# Altium footprint library VESC6_3.PcbLib: 18 footprints (part 1 of 2)
Each footprint in its own frame and in the unit in brackets; x right, y up, seen from the top. Pads: shape width x height; smd on the part's side, far side on the other; paste and mask are expansions set on the pad; w line width, h text height; cw(c..) or ccw(c..) is an arc to the next point about the centre after c.
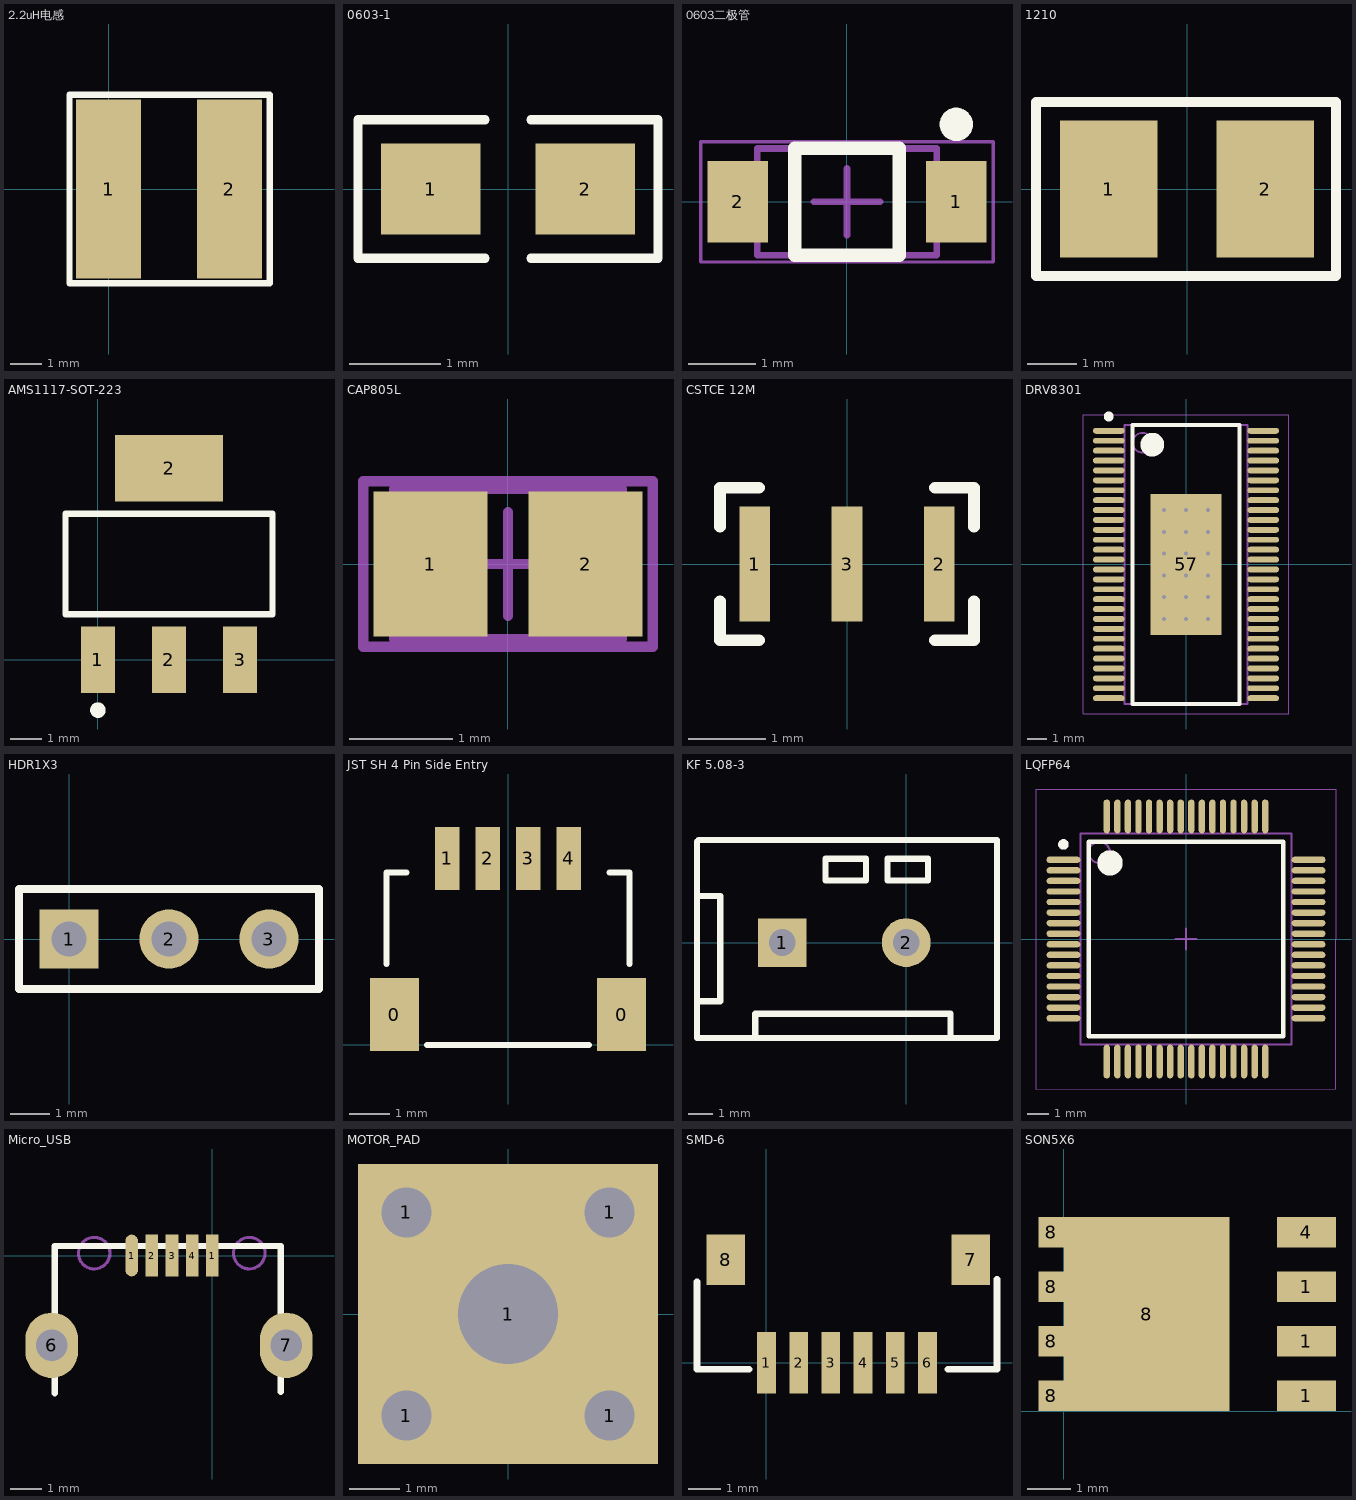
[diagram p0: the footprints below, top view; thin cyan lines are the x and y axes]

## 2.2uH电感 [mm]
pads (2):
  rect 2.1x5.8 smd: 1(0,0) 2(3.9,0)
Top Overlay:
  lines w0.2: -1.27,-3.048 -1.27,-0.27 -1.27,3.048 5.207,3.048 5.207,-3.048 -1.27,-3.048

## 0603-1 [mm] "贴片带丝印"
height 0.6
pads (2):
  rect 1.1x1 smd: 1(-0.85,0) 2(0.85,0)
Top Overlay:
  lines w0.1: -0.254,-0.762 -1.651,-0.762 -1.651,0.762 -0.254,0.762 ; 0.254,-0.762 1.651,-0.762 1.651,0.762 0.254,0.762
3D body: height 1, standoff 0, extent -1.143,-0.381 1.143,0.381

## 0603二极管 [mm]
pads (2):
  rect 0.91x1.22 smd: 1(1.635,0) 2(-1.635,0)
Top Overlay:
  circle w0.25: c1.635,1.16 r0.125
  lines w0.2: -0.78,-0.8 0.78,-0.8 0.78,0.8 -0.78,0.8 -0.78,-0.8
Mechanical 14:
  lines w0.1: -1.345,-0.8 -1.345,0.8 1.345,0.8 1.345,-0.8 -1.345,-0.8
Mechanical 16:
  lines w0.05: -2.19,-0.9 -2.19,0.9 2.19,0.9 2.19,-0.9 -2.19,-0.9
  lines w0.1: -0.5,0 0.5,0 ; 0,-0.5 0,0.5

## 1210 [mm]
pads (2):
  rect 2x2.8 smd: 1(-1.6,0) 2(1.6,0)
Top Overlay:
  lines w0.2: -3.089,-1.778 -3.089,0 -3.089,1.778 -2.2,1.778 3.048,1.778 3.048,-1.778 -2.2,-1.778 -3.089,-1.778

## AMS1117-SOT-223 [mm]
pads (4):
  rect 1.1x2.15 smd: 1(0,0) 2(2.3,0) 3(4.6,0)
  rect 3.5x2.15 smd: 2(2.3,6.2)
Top Overlay:
  circle w0.25: c0,-1.625 r0.125
  lines w0.2: -1.05,1.475 -1.05,4.725 5.65,4.725 5.65,1.475 -1.05,1.475

## CAP805L [mm] "Chip Capacitor, Body 2.0x1.3mm, IPC High Density"
height 1.1
pads (2):
  rect 1.1x1.4 smd: 1(-0.75,0) 2(0.75,0)
Mechanical 13:
  lines w0.1: -1.1,-0.725 -1.1,0.725 1.1,0.725 1.1,-0.725 -1.1,-0.725
Mechanical 15:
  lines w0.1: -0.5,0 0.5,0 ; 0,-0.5 0,0.5 ; -1.4,-0.8 -1.4,0.8 1.4,0.8 1.4,-0.8 -1.4,-0.8
3D body "0805 SMD Capacitor.step": height 0.78, standoff 0, extent -1,-0.625 1,0.625

## CSTCE 12M [mm] "晶振 3.2*1.3"
pads (3):
  rect 0.4x1.5 smd: 1(-1.2,0) 2(1.2,0) 3(0,0)
Top Overlay:
  lines w0.152: -1.651,-0.483 -1.651,-0.991 -1.143,-0.991 ; -1.651,0.483 -1.651,0.991 -1.143,0.991 ; 1.143,-0.991 1.651,-0.991 1.651,-0.483 ; 1.143,0.991 1.651,0.991 1.651,0.483
3D body: height 0.5, standoff 0.29, extent -1.524,-0.889 1.524,0.889
3D body: height 0.3, standoff 0, extent -1.549,-0.889 1.55,0.881

## DRV8301 [mm] "TSSOP, 56-Leads, Body 14.00x6.10mm, Pitch 0.50mm, Thermal Pad 7.11x3.61mm, IPC Low Density"
height 1.2
pads (57):
  oval 1.6x0.3 smd: 1(-3.9,6.75) 2(-3.9,6.25) 3(-3.9,5.75) 4(-3.9,5.25) 5(-3.9,4.75) 6(-3.9,4.25) 7(-3.9,3.75) 8(-3.9,3.25) 9(-3.9,2.75) 10(-3.9,2.25) 11(-3.9,1.75) 12(-3.9,1.25) 13(-3.9,0.75) 14(-3.9,0.25) 15(-3.9,-0.25) 16(-3.9,-0.75) 17(-3.9,-1.25) 18(-3.9,-1.75) 19(-3.9,-2.25) 20(-3.9,-2.75) 21(-3.9,-3.25) 22(-3.9,-3.75) 23(-3.9,-4.25) 24(-3.9,-4.75) 25(-3.9,-5.25) 26(-3.9,-5.75) 27(-3.9,-6.25) 28(-3.9,-6.75) 29(3.9,-6.75) 30(3.9,-6.25) 31(3.9,-5.75) 32(3.9,-5.25) 33(3.9,-4.75) 34(3.9,-4.25) 35(3.9,-3.75) 36(3.9,-3.25) 37(3.9,-2.75) 38(3.9,-2.25) 39(3.9,-1.75) 40(3.9,-1.25) 41(3.9,-0.75) 42(3.9,-0.25) 43(3.9,0.25) 44(3.9,0.75) 45(3.9,1.25) 46(3.9,1.75) 47(3.9,2.25) 48(3.9,2.75) 49(3.9,3.25) 50(3.9,3.75) 51(3.9,4.25) 52(3.9,4.75) 53(3.9,5.25) 54(3.9,5.75) 55(3.9,6.25) 56(3.9,6.75)
  rect 3.61x7.11 smd: 57(0,0)
via -1.1,2.75 diameter 0.5 hole 0.2
via 0,2.75 diameter 0.5 hole 0.2
via 1.1,2.75 diameter 0.5 hole 0.2
via -1.1,1.65 diameter 0.5 hole 0.2
via 0,1.65 diameter 0.5 hole 0.2
via 1.1,1.65 diameter 0.5 hole 0.2
via -1.1,0.55 diameter 0.5 hole 0.2
via 0,0.55 diameter 0.5 hole 0.2
via 1.1,0.55 diameter 0.5 hole 0.2
via -1.1,-0.55 diameter 0.5 hole 0.2
via 0,-0.55 diameter 0.5 hole 0.2
via 1.1,-0.55 diameter 0.5 hole 0.2
via -1.1,-1.65 diameter 0.5 hole 0.2
via 0,-1.65 diameter 0.5 hole 0.2
via 1.1,-1.65 diameter 0.5 hole 0.2
via -1.1,-2.75 diameter 0.5 hole 0.2
via 0,-2.75 diameter 0.5 hole 0.2
via 1.1,-2.75 diameter 0.5 hole 0.2
Top Overlay:
  circle w0.25: c-3.9,7.475 r0.125
  circle w0.6: c-1.7,6.05 r0.3
  lines w0.2: -2.7,-7.05 -2.7,7.05 2.7,7.05 2.7,-7.05 -2.7,-7.05
Mechanical 13:
  circle w0.1: c-2.2,6.15 r0.5
  lines w0.1: -3.1,-7.05 -3.1,7.05 3.1,7.05 3.1,-7.05 -3.1,-7.05
Mechanical 15:
  lines w0.05: -5.2,-7.55 -5.2,7.55 5.2,7.55 5.2,-7.55 -5.2,-7.55
  lines w0.1: -0.5,0 0.5,0 ; 0,-0.5 0,0.5
3D body "DRV8301.step": height 1.2, standoff 0, extent -4.05,-7.05 4.05,7.05

## HDR1X3 [mm] "Connector; Header; 3 Position"
pads (3):
  rect 1.5x1.5 hole 0.9: 1(0,0)
  round 1.5 hole 0.9: 2(2.54,0) 3(5.08,0)
Top Overlay:
  lines w0.2: -1.27,-1.27 -1.27,1.27 6.35,1.27 6.35,-1.27 -1.27,-1.27

## JST SH 4 Pin Side Entry [mm] "SM04B-SRSS-TB"
height 2.9
pads (6):
  rect 1.2x1.8 smd: 0(-2.8,0.75) 0(2.8,0.75)
  rect 0.6x1.55 smd: 1(-1.5,4.6) 2(-0.5,4.6) 3(0.5,4.6) 4(1.5,4.6)
Top Overlay:
  lines w0.15: -3,2 -3,4.25 -2.5,4.25 ; -2,0 2,0 ; 2.5,4.25 3,4.25 3,2
3D body "SM04B-SRSS-TB.STEP": height 2.92, standoff -0.04, extent -3,0 3,4.95

## KF 5.08-3 [mm]
pads (2):
  rect 2x2 hole 1.1: 1(-5.08,0)
  round 2 hole 1.1: 2(0,0)
Top Overlay:
  lines w0.254: -8.57,-2.404 -7.62,-2.404 -7.62,1.914 -8.57,1.914 ; -6.186,-3.839 -6.186,-2.912 1.815,-2.912 1.815,-3.839 ; 3.72,1.914 3.72,4.2 -8.5,4.2 -8.57,4.13 -8.57,4.002 -8.57,-3.9 3.72,-3.9 3.72,2.54 ; -3.302,2.549 -1.651,2.549 -1.651,3.438 -3.302,3.438 -3.302,2.549 ; -0.762,2.549 0.889,2.549 0.889,3.438 -0.762,3.438 -0.762,2.549
Mechanical 15:
  circle w0.05: c0,0 r0.35
  lines w0.05: -0.5,0 0.5,0 ; 0,-0.5 0,0.5
3D body "KF2EDGK-2.54-LI-3P.STEP": height 10.15, standoff -3.15, extent -7.451,-4 2.069,4.1

## LQFP64 [mm] "TSQFP, 64-Leads, Body 10.00x10.00mm, Pitch 0.50mm, IPC Low Density"
height 1.6
pads (64):
  oval 1.6x0.3 smd: 1(-5.8,3.75) 2(-5.8,3.25) 3(-5.8,2.75) 4(-5.8,2.25) 5(-5.8,1.75) 6(-5.8,1.25) 7(-5.8,0.75) 8(-5.8,0.25) 9(-5.8,-0.25) 10(-5.8,-0.75) 11(-5.8,-1.25) 12(-5.8,-1.75) 13(-5.8,-2.25) 14(-5.8,-2.75) 15(-5.8,-3.25) 16(-5.8,-3.75) 33(5.8,-3.75) 34(5.8,-3.25) 35(5.8,-2.75) 36(5.8,-2.25) 37(5.8,-1.75) 38(5.8,-1.25) 39(5.8,-0.75) 40(5.8,-0.25) 41(5.8,0.25) 42(5.8,0.75) 43(5.8,1.25) 44(5.8,1.75) 45(5.8,2.25) 46(5.8,2.75) 47(5.8,3.25) 48(5.8,3.75)
  oval 0.3x1.6 smd: 17(-3.75,-5.8) 18(-3.25,-5.8) 19(-2.75,-5.8) 20(-2.25,-5.8) 21(-1.75,-5.8) 22(-1.25,-5.8) 23(-0.75,-5.8) 24(-0.25,-5.8) 25(0.25,-5.8) 26(0.75,-5.8) 27(1.25,-5.8) 28(1.75,-5.8) 29(2.25,-5.8) 30(2.75,-5.8) 31(3.25,-5.8) 32(3.75,-5.8) 49(3.75,5.8) 50(3.25,5.8) 51(2.75,5.8) 52(2.25,5.8) 53(1.75,5.8) 54(1.25,5.8) 55(0.75,5.8) 56(0.25,5.8) 57(-0.25,5.8) 58(-0.75,5.8) 59(-1.25,5.8) 60(-1.75,5.8) 61(-2.25,5.8) 62(-2.75,5.8) 63(-3.25,5.8) 64(-3.75,5.8)
Top Overlay:
  circle w0.25: c-5.8,4.475 r0.125
  circle w0.6: c-3.6,3.6 r0.3
  lines w0.2: -4.6,-4.6 -4.6,4.6 4.6,4.6 4.6,-4.6 -4.6,-4.6
Mechanical 13:
  circle w0.1: c-4.1,4.1 r0.5
  lines w0.1: -5,-5 -5,5 5,5 5,-5 -5,-5
Mechanical 15:
  lines w0.05: -7.1,-7.1 -7.1,7.1 7.1,7.1 7.1,-7.1 -7.1,-7.1
  lines w0.1: -0.5,0 0.5,0 ; 0,-0.5 0,0.5
3D body "LQFP64.step": height 1.6, standoff 0, extent -6,-6 6,6

## Micro_USB [mil]
pads (7):
  oval 16x53 smd mask+1: 1(-102.36,0)
  rect 16x53 smd mask+1: 1(0,0) 2(-76.77,0) 3(-51.18,0) 4(-25.59,0)
  oval 67x83 hole 40 mask+1: 6(-204,-114) 7(94,-114)
Top Overlay:
  lines w8: -200,-175 -200,12 87,12 87,-173
Mechanical 1:
  circle w4: c46.98,3 r20.02
  circle w4: c-150.03,3 r20.02

## MOTOR_PAD [mil]
pads (5):
  round 60 hole 39.37: 1(-80,-80) 1(-80,80) 1(80,-80) 1(80,80)
  rect 236.22x236.22 hole 78.74: 1(0,0)

## SMD-6 [mil]
pads (8):
  rect 23x75 smd mask+1: 1(0,0) 2(39.37,0) 3(78.74,0) 4(118.11,0) 5(157.48,0) 6(196.85,0)
  rect 47x62 smd mask+1: 7(250,126) 8(-50,126)
Top Overlay:
  lines w8: -85,99 -85,-8 -21,-8 ; 222,-8 282,-8 282,102

## SON5X6 [mm]
pads (9):
  rect 1.372x0.71 smd: 1(5.636,0.355) 1(5.636,1.625) 1(5.636,2.895) 4(5.636,4.165)
  rect 0.59x0.71 smd: 8(-0.295,0.355) 8(-0.295,1.625) 8(-0.295,4.165) 8(-0.295,2.895)
  rect 3.85x4.52 smd: 8(1.925,2.26)